# EAGLE library part KCSA56-105 (library comp)
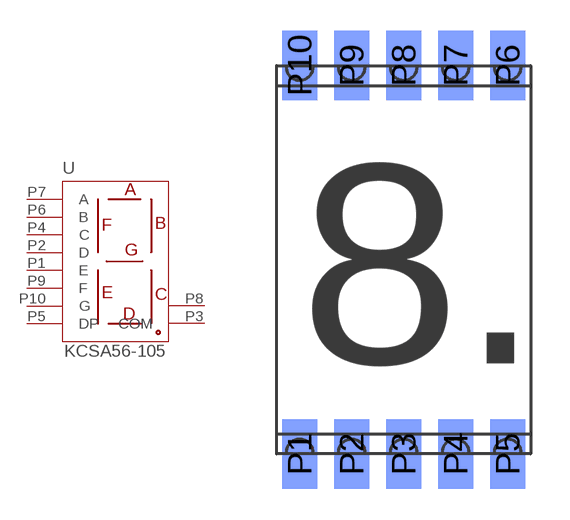
[diagram p0: symbol with the pads of KCSA56-REV; footprint KCSA56-REV]

Designator prefix -

## KCSA56-105  [KCSA56-REV]
P1  E
P2  D
P3  COM
P4  C
P5  DP
P6  B
P7  A
P8
P9  F
P10  G

## Footprint KCSA56-REV (pad centres in mm)
smd 1.7 x 3.4 bottom: P1 -5.08,-9.5; P2 -2.54,-9.5; P3 0,-9.5; P4 2.54,-9.5; P5 5.08,-9.5; P6 5.08,9.5; P7 2.54,9.5; P8 0,9.5; P9 -2.54,9.5; P10 -5.08,9.5